# EAGLE library part VENUS634LPX (library skytraq)
GPS Receiver 65 Channel, Ultra Low-Power
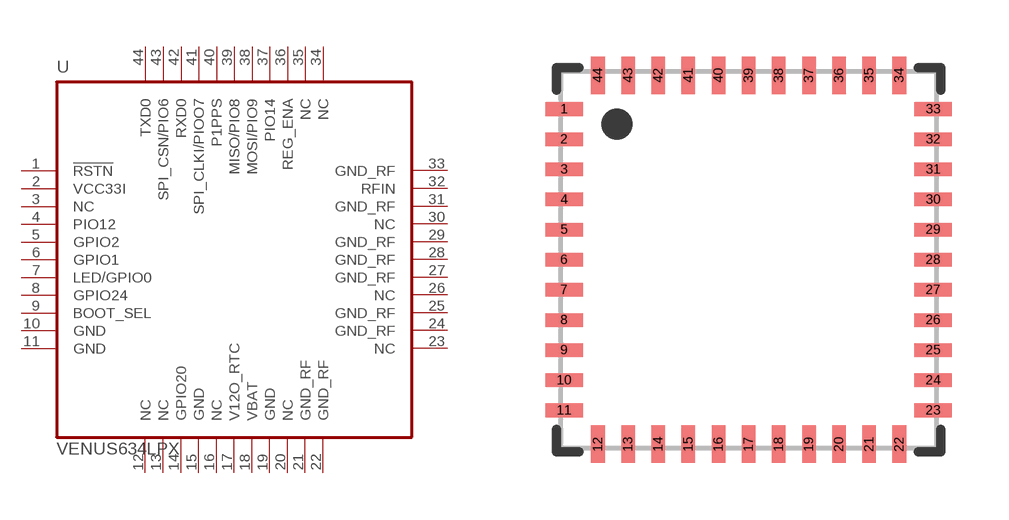
[diagram p0: symbol with the pads of LGA44; footprint LGA44]

Designator prefix U

## VENUS634LPX  [LGA44]
1  !RSTN!  in
2  VCC33I  pwr
3  NC  nc
4  PIO12
5  GPIO2
6  GPIO1
7  LED/GPIO0
8  GPIO24
9  BOOT_SEL
10  GND  pwr
11  GND  pwr
12  NC  nc
13  NC  nc
14  GPIO20
15  GND  pwr
16  NC  nc
17  V12O_RTC  out
18  VBAT  pwr
19  GND  pwr
20  NC  nc
21  GND_RF  pwr
22  GND_RF  pwr
23  NC  nc
24  GND_RF  pwr
25  GND_RF  pwr
26  NC  nc
27  GND_RF  pwr
28  GND_RF  pwr
29  GND_RF  pwr
30  NC  nc
31  GND_RF  pwr
32  RFIN  in
33  GND_RF  pwr
34  NC  nc
35  NC  nc
36  REG_ENA  in
37  PIO14
38  MOSI/PIO9
39  MISO/PIO8
40  P1PPS
41  SPI_CLKI/PIOO7
42  RXD0  in
43  SPI_CSN/PIO6
44  TXD0  out

## Footprint LGA44 (pad centres in mm)
LGA 44 0.8 mm pitch
smd 1 x 0.36: 1 -4.9,4; 2 -4.9,3.2; 3 -4.9,2.4; 4 -4.9,1.6; 5 -4.9,0.8; 6 -4.9,0; 7 -4.9,-0.8; 8 -4.9,-1.6; 9 -4.9,-2.4; 10 -4.9,-3.2; 11 -4.9,-4; 23 4.9,-4; 24 4.9,-3.2; 25 4.9,-2.4; 26 4.9,-1.6; 27 4.9,-0.8; 28 4.9,0; 29 4.9,0.8; 30 4.9,1.6; 31 4.9,2.4; 32 4.9,3.2; 33 4.9,4
smd 0.36 x 1: 12 -4,-4.9; 13 -3.2,-4.9; 14 -2.4,-4.9; 15 -1.6,-4.9; 16 -0.8,-4.9; 17 0,-4.9; 18 0.8,-4.9; 19 1.6,-4.9; 20 2.4,-4.9; 21 3.2,-4.9; 22 4,-4.9; 34 4,4.9; 35 3.2,4.9; 36 2.4,4.9; 37 1.6,4.9; 38 0.8,4.9; 39 0,4.9; 40 -0.8,4.9; 41 -1.6,4.9; 42 -2.4,4.9; 43 -3.2,4.9; 44 -4,4.9